# Altium footprint library CAP-SMD.PcbLib: 4 footprints
Each footprint in its own frame and in the unit in brackets; x right, y up, seen from the top. Pads: shape width x height; smd on the part's side, far side on the other; paste and mask are expansions set on the pad; w line width, h text height; cw(c..) or ccw(c..) is an arc to the next point about the centre after c.
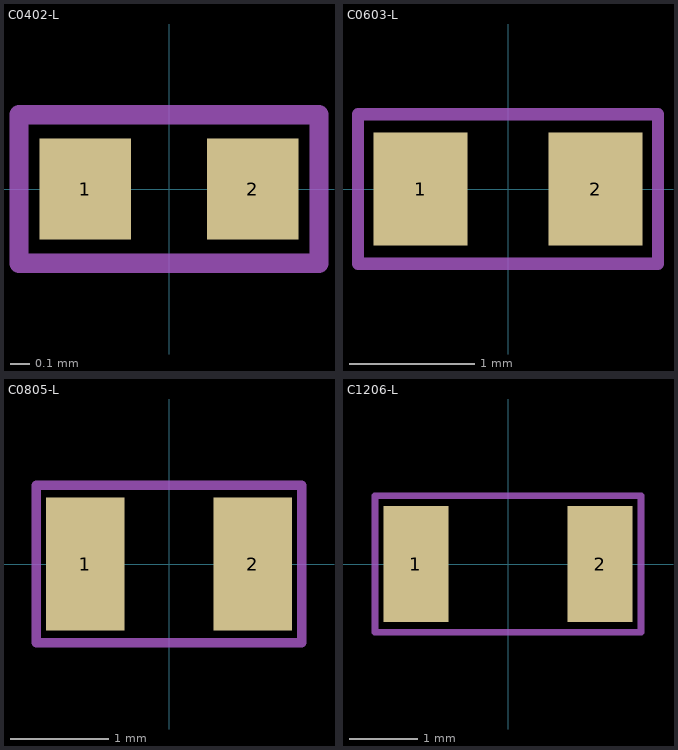
[diagram p0: the footprints below, top view; thin cyan lines are the x and y axes]

## C0402-L [mm]
pads (2):
  rect 0.47x0.52 smd: 1(-0.43,0) 2(0.43,0)
Mechanical 15:
  lines w0.1: -0.77,-0.38 -0.77,0.38 0.77,0.38 0.77,-0.38 -0.77,-0.38
3D body "CAP0402.stp": height 0.2, standoff 0, extent -0.5,-0.3 0.5,0.3

## C0603-L [mm]
pads (2):
  rect 0.75x0.9 smd: 1(-0.7,0) 2(0.7,0)
Mechanical 15:
  lines w0.1: -1.2,-0.6 1.2,-0.6 1.2,0.6 -1.2,0.6 -1.2,-0.6
3D body "CAP0603.stp": height 0.3, standoff 0, extent -0.8,-0.4 0.8,0.4

## C0805-L [mm]
pads (2):
  rect 0.8x1.35 smd: 1(-0.85,0) 2(0.85,0)
Mechanical 15:
  lines w0.1: -1.35,-0.8 -1.35,0.8 1.35,0.8 1.35,-0.8 -1.35,-0.8
3D body "CAP0805.stp": height 0.78, standoff 0, extent -1,-0.625 1,0.625

## C1206-L [mm]
pads (2):
  rect 0.95x1.7 smd: 1(-1.35,0) 2(1.35,0)
Mechanical 15:
  lines w0.1: -1.95,-1 1.95,-1 1.95,1 -1.95,1 -1.95,-1
3D body "CAP1206.stp": height 1, standoff 0, extent -1.6,-0.8 1.6,0.8